# Altium schematic symbol library res_cap_schematic.SchLib: 17 symbols
Pins are listed as number, name and electrical type; pins without a type are passive.

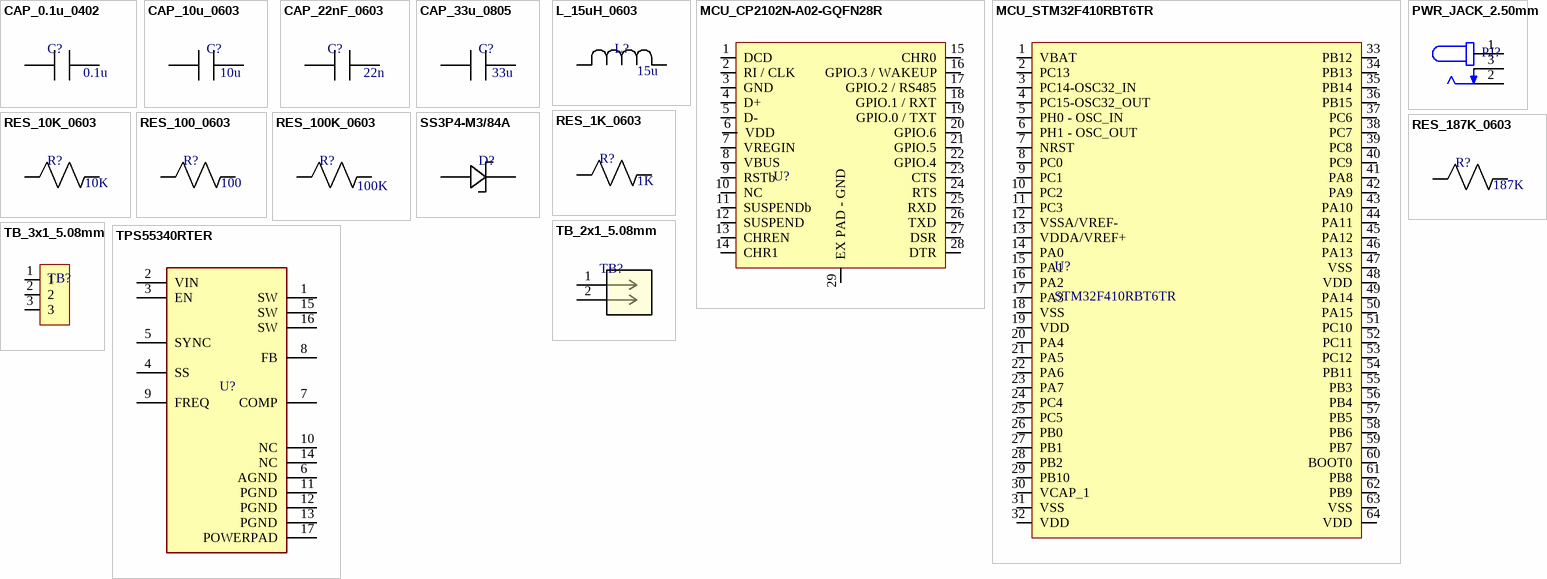
[diagram p0: symbols CAP_0.1u_0402 to TPS55340RTER]

## CAP_0.1u_0402
designator C?, comment 0.1u
CAP CER 0.1UF 10V X7R 0402; Manufacturer: Samsung Electro-Mechanics; Manufacturer Part Number 1: CL05B104KP5NNNC; ComponentLink1Description: New link; ComponentLink1URL: https://www.digikey.com/en/products/detail/samsung-electro-mechanics-america-inc/CL05B104KP5NNNC/3889088?curr=usd&utm_campaign=buynow&utm_medium=aggregator&utm_source=octopart; Supplier 1: Digikey; Supplier Part Number 1: 1276-1002-1-ND; Value: 0.1u
footprint CAP_0402
pins: 1, 2

## CAP_10u_0603
designator C?, comment 10u
CAP CER 10UF 10V X5R 0603; Manufacturer: Samsung Electro-Mechanics; Manufacturer Part Number 1: CL10A106KP8NNNC; ComponentLink1Description: New link; ComponentLink1URL: https://www.digikey.com/en/products/detail/samsung-electro-mechanics/CL10A106KP8NNNC/3886850; Supplier 1: Digikey; Supplier Part Number 1: 1276-1192-1-ND; Value: 10u
footprint CAP_0603
pins: 1, 2

## CAP_22nF_0603
designator C?, comment value 22n  (hidden comment: 22nF)
CAP CER 0.027UF 25V X7R 0603; Manufacturer: Cal-Chip Electronics, Inc.; Manufacturer Part Number 1: GMC10X7R273J25NT; ComponentLink1Description: New link; ComponentLink1URL: https://www.digikey.com/en/products/detail/cal-chip-electronics-inc/GMC10X7R273J25NT/13908236; Supplier 1: Digikey; Supplier Part Number 1: 2571-GMC10X7R273J25NTTR-ND
footprint CAP_0603
pins: 1, 2

## CAP_33u_0805
designator C?, comment 33u
CAP CER 33UF 6.3V X5R 0805; Manufacturer: TDK Corporation; Manufacturer Part Number 1: C2012X5R0J336M125AC; ComponentLink1Description: New link; ComponentLink1URL: https://www.digikey.com/en/products/detail/samsung-electro-mechanics/CL10A106KP8NNNC/3886850; Supplier 1: Digikey; Supplier Part Number 1: 445-5986-1-ND; Value: 33u
footprint CAP_0805
pins: 1, 2

## L_15uH_0603
designator L?, comment value 15u  (hidden comment: IND 15UH 2MA 1.5 OHM)
FIXED IND 15UH 2MA 1.5 OHM SMD; Manufacturer: TDK Corporation; Manufacturer Part Number 1: MLF1608C150KTA00; ComponentLink1Description: New link; ComponentLink1URL: https://www.digikey.com/en/products/detail/tdk-corporation/MLF1608C150KTA00/504196; Supplier Part Number 1: 445-1027-1-ND; Supplier 1: Digi-key
footprint L_0603
pins: 1, 2

## MCU_CP2102N-A02-GQFN28R
designator U?, comment CP2102N-A02-GQFN28R  (value not drawn)
IC USB TO UART BRIDGE QFN28; Manufacturer: Silicon Labs; ComponentLink1Description: Digi-key; ComponentLink1URL: https://www.digikey.com/en/products/detail/silicon-labs/CP2102N-A02-GQFN28R/9863480; Supplier 1: Digi-key; Supplier Part Number 1: 336-5890-1-ND; Manufacturer Part Number 1: CP2102N-A02-GQFN28R
footprint QFN28_5X5
pins: 1 DCD, 2 RI / CLK, 3 GND, 4 D+, 5 D-, 6 VDD, 7 VREGIN, 8 VBUS, 9 RSTb, 10 NC, 11 SUSPENDb, 12 SUSPEND, 13 CHREN, 14 CHR1, 15 CHR0, 16 GPIO.3 / WAKEUP, 17 GPIO.2 / RS485, 18 GPIO.1 / RXT, 19 GPIO.0 / TXT, 20 GPIO.6, 21 GPIO.5, 22 GPIO.4, 23 CTS, 24 RTS, 25 RXD, 26 TXD, 27 DSR, 28 DTR, 29 EX PAD - GND

## MCU_STM32F410RBT6TR
designator U?, comment STM32F410RBT6TR
IC MCU 32BIT 128KB FLASH 64LQFP; Manufacturer: STMicroelectronics; ComponentLink1Description: Digi-key; ComponentLink1URL: https://www.digikey.com/en/products/detail/stmicroelectronics/STM32F410RBT6TR/6621733; Supplier 1: Digi-key; Supplier Part Number 1: 497-19347-1-ND; Manufacturer Part Number 1: STM32F410RBT6TR
footprint LQFP64_10X10
pins: 1 VBAT, 2 PC13, 3 PC14-OSC32_IN, 4 PC15-OSC32_OUT, 5 PH0 - OSC_IN, 6 PH1 - OSC_OUT, 7 NRST, 8 PC0, 9 PC1, 10 PC2, 11 PC3, 12 VSSA/VREF-, 13 VDDA/VREF+, 14 PA0, 15 PA1, 16 PA2, 17 PA3, 18 VSS, 19 VDD, 20 PA4, 21 PA5, 22 PA6, 23 PA7, 24 PC4, 25 PC5, 26 PB0, 27 PB1, 28 PB2, 29 PB10, 30 VCAP_1, 31 VSS, 32 VDD, 33 PB12, 34 PB13, 35 PB14, 36 PB15, 37 PC6, 38 PC7, 39 PC8, 40 PC9, 41 PA8, 42 PA9, 43 PA10, 44 PA11, 45 PA12, 46 PA13, 47 VSS, 48 VDD, 49 PA14, 50 PA15, 51 PC10, 52 PC11, 53 PC12, 54 PB11, 55 PB3, 56 PB4, 57 PB5, 58 PB6, 59 PB7, 60 BOOT0, 61 PB8, 62 PB9, 63 VSS, 64 VDD

## PWR_JACK_2.50mm
designator PJ?, comment CONN PWR JACK 2.5X5.5MM SOLDER  (value not drawn)
Power Barrel Connector Jack 2.50mm ID (0.098"), 5.50mm OD (0.217") Through Hole, Right Angle; Manufacturer: Same Sky (Formerly CUI Devices); Manufacturer Part Number 1: PJ-002B; ComponentLink1Description: New link; ComponentLink1URL: https://www.digikey.com/en/products/detail/same-sky-formerly-cui-devices/PJ-002B/96965; Supplier 1: Digikey; Supplier Part Number 1: CP-002B-ND
footprint PWR_JACK_2.50mm
pins: 1, 2, 3

## RES_1K_0603
designator R?, comment 1K
RES 1K OHM 1% 1/10W 0603; Manufacturer: Stackpole Electronics Inc; Manufacturer Part Number 1: RMCF0603FT1K00; Supplier 1: Digi-key; Supplier Part Number 1: RMCF0603FT1K00CT-ND; ComponentLink1Description: New link; ComponentLink1URL: https://www.digikey.com/en/products/detail/stackpole-electronics-inc/RMCF0603FT1K00/1761077; Value: 1K
footprint RES_0603
pins: 1, 2   2

## RES_10K_0603
designator R?, comment 10K
RES 10K OHM 1% 1/10W 0603; Manufacturer Part Number 1: RMCF0603FT100R; Manufacturer: Stackpole Electronics Inc; ComponentLink1Description: New link; ComponentLink1URL: https://www.digikey.com/en/products/detail/stackpole-electronics-inc/RMCF0603FT10K0/1761235; Supplier Part Number 1: RMCF0603FT10K0CT-ND; Supplier 1: Digi-key; Value: 10K
footprint RES_0603
pins: 1, 2   

## RES_100_0603
designator R?, comment 100
RES 100 OHM 1% 1/10W 0603; Manufacturer: Stackpole Electronics Inc; Manufacturer Part Number 1: RMCF0603FT100R; Supplier 1: Digi-key; Supplier Part Number 1: RMCF0603FT100RCT-ND; ComponentLink1Description: New link; ComponentLink1URL: https://www.digikey.com/en/products/detail/stackpole-electronics-inc/RMCF0603FT100R/1761113; Value: 100
footprint RES_0603
pins: 1, 2   

## RES_100K_0603
designator R?, comment 100K
Fixed Resistor, Metal Glaze/thick Film, 0.1W, 100000ohm, 50V, 5% +/-Tol, 200ppm/Cel, Surface Mount, 0603; Manufacturer Part Number 1: RMCF0603FT100R; Manufacturer: Stackpole Electronics Inc; ComponentLink1Description: New link; ComponentLink1URL: https://www.digikey.com/en/products/detail/stackpole-electronics-inc/RMCF0603FT10K0/1761235; Supplier Part Number 1: RMCF0603FT10K0CT-ND; Supplier 1: Digi-key; Case/Package: 0603; Value: 100K
footprint RES_0603
pins: 1, 2   

## RES_187K_0603
designator R?, comment 187K
RES SMD 187K OHM 1% 1/10W 0603; Manufacturer Part Number 1: ERJ-3EKF1873V; Manufacturer: Panasonic Electronic Components; ComponentLink1Description: New link; ComponentLink1URL: https://www.digikey.com/en/products/detail/panasonic-electronic-components/ERJ-3EKF1873V/196173; Supplier Part Number 1: P187KHTR-ND; Supplier 1: Digi-key; Value: 187K
footprint RES_0603
pins: 1, 2   

## SS3P4-M3/84A
designator D?  (value not drawn)
DIODE SCHOTTKY 40V 3A DO220AA; Manufacturer: Vishay General Semiconductor - Diodes Division; Manufacturer Part Number 1: SS3P4-M3/84A; ComponentLink1Description: New link; ComponentLink1URL: https://www.digikey.com/en/products/detail/vishay-general-semiconductor-diodes-division/SS3P4-M3-84A/1147819?s=N4IgTCBcDaIMpwMwAUAsBaAsog9ADlQEEQBdAXyA; Supplier 1: Digikey; Supplier Part Number 1: SS3P4-M3/84AGICT-ND
footprint DO-220AA(POWER DIODE)
pins: 1, 2

## TB_2x1_5.08mm
designator TB?, comment TERM BLK 2P SIDE ENT 5.08MM PCB  (value not drawn)
2 Bloques de terminales - Cable a placa Horizontal con placa 0.200" (5.08mm) Orificio pasante; Manufacturer: Weidmüller; Manufacturer Part Number 1: 1760510000; Supplier 1: Digi-key; Supplier Part Number 1: 281-1882-ND; ComponentLink1Description: New link; ComponentLink1URL: https://www.digikey.com/es/products/detail/weidm%C3%BCller/1760510000/459739
footprint TB_2x1_5.08mm
pins: 1, 2

## TB_3x1_5.08mm
designator TB?  (value not drawn)
TERM BLK 3P SIDE ENT 5.08MM PCB; Manufacturer: On Shore Technology Inc.; Manufacturer Part Number 1: OSTTC032162; Supplier 1: Digi-key; Supplier Part Number 1: ED2610-ND; ComponentLink1Description: New link; ComponentLink1URL: https://www.digikey.com/en/products/detail/on-shore-technology-inc/OSTTC032162/614559
footprint TB_3X1_5.08mm
pins: 1, 2, 3

## TPS55340RTER
designator U?  (value not drawn)
IC REG BOOST ADJ 5.25A 16WQFN; Manufacturer: Texas Instruments; Manufacturer Part Number 1: TPS55340RTER; Supplier 1: Digi-key; Supplier Part Number 1: 296-37677-2-ND; ComponentLink1Description: New link; ComponentLink1URL: https://www.digikey.com/en/products/detail/texas-instruments/TPS55340RTER/3503781?s=N4IgTCBcDaIC4AcDOBWFBmALABgE5wFNcQBdAXyA
footprint WQFN-16_3X3MM
pins: 1 SW, 2 VIN (power), 3 EN, 4 SS, 5 SYNC, 6 AGND (power), 7 COMP, 8 FB, 9 FREQ, 10 NC (power), 11 PGND (power), 12 PGND (power), 13 PGND (power), 14 NC (power), 15 SW, 16 SW, 17 POWERPAD (power)